# EAGLE library part RESISTOR-ARRAY (library vinorodrigues-custom-eagle)
4 x resistor array An array is a collection of discrete resistors in a single package.
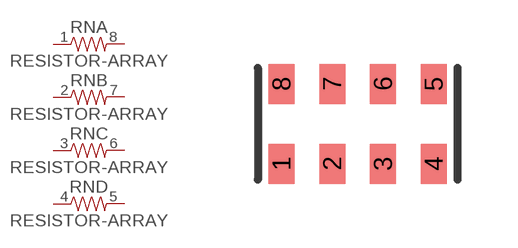
[diagram p10: symbol with the pads of 0805-ARV; footprint 0805-ARV]

Designator prefix RN; gates B=RESISTOR-PADS C=RESISTOR-PADS D=RESISTOR-PADS A=RESISTOR-PADS

## RESISTOR-ARRAY-0805_ARV-1/10W-5%  [0805-ARV]
1  A:1  pas
2  B:1  pas
3  C:1  pas
4  D:1  pas
5  D:2  pas
6  C:2  pas
7  B:2  pas
8  A:2  pas

## Footprint 0805-ARV (pad centres in mm)
4X2012(0805) resistor array
smd 0.65 x 1: 1 -1.905,-1; 2 -0.635,-1; 3 0.635,-1; 4 1.905,-1; 5 1.905,1; 6 0.635,1; 7 -0.635,1; 8 -1.905,1